# Altium footprint library Trans_Vishay_SUD50P04-08-GE3_eec_MFG.PcbLib: 1 footprints
Each footprint in its own frame and in the unit in brackets; x right, y up, seen from the top. Pads: shape width x height; smd on the part's side, far side on the other; paste and mask are expansions set on the pad; w line width, h text height; cw(c..) or ccw(c..) is an arc to the next point about the centre after c.
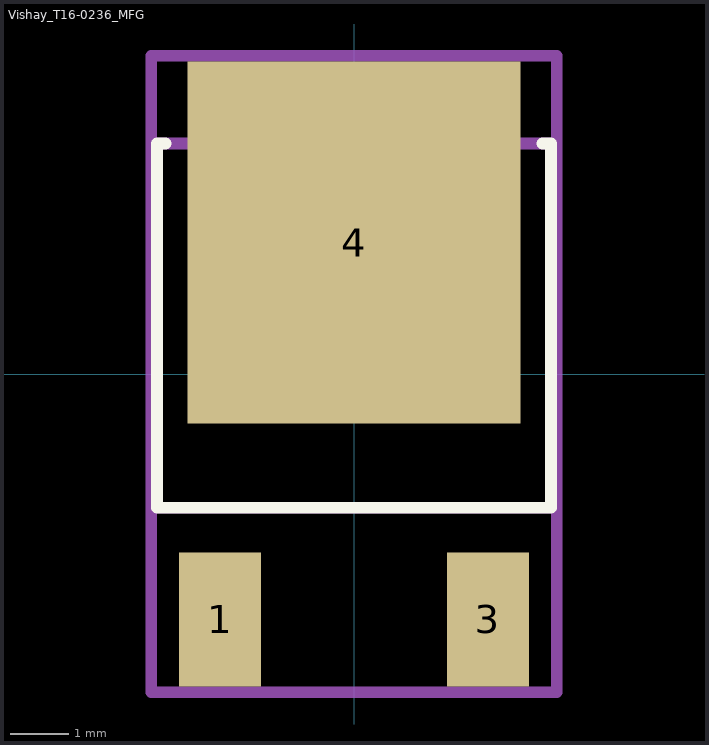
[diagram p0: the footprint, top view; thin cyan lines are the x and y axes]

## Vishay_T16-0236_MFG [mil]
pads (3):
  rect 55x90 smd paste+0 mask+0: 1(-90,-165) 3(90,-165)
  rect 224.02x243.31 smd paste+0 mask+0: 4(0,88.35)
Top Overlay:
  lines w7.87: -126.77,154.92 -132.48,154.92 -132.48,-89.96 132.48,-89.96 132.48,154.92 126.77,154.92
Mechanical 10:
  lines w7.87: -136.42,-213.94 136.42,-213.94 136.42,213.94 -136.42,213.94 -136.42,-213.94
  text ".Designator" at 0,0 h39.37
Mechanical 12:
  lines w7.87: -132.48,-89.96 132.48,-89.96 132.48,154.92 -132.48,154.92 -132.48,-89.96
Mechanical 15:
  lines w3.94: -19.68,0 19.68,0 ; 0,-19.68 0,19.68
  lines w7.87: -136.42,-213.94 136.42,-213.94 136.42,213.94 -136.42,213.94 -136.42,-213.94
3D body "Trans_Vishay_SUD50P04-08-GE3_eec.STEP": height 10, standoff 0, extent -136.42,-213.94 136.42,213.94